# EAGLE library part MSP430FW42* (library Texas Instruments)
MIXED SIGNAL MICROCONTROLLER created with make-symbol-device-package-bsdl - text option Source: www.ti.com .. MSP430 Microcontroller.pdf
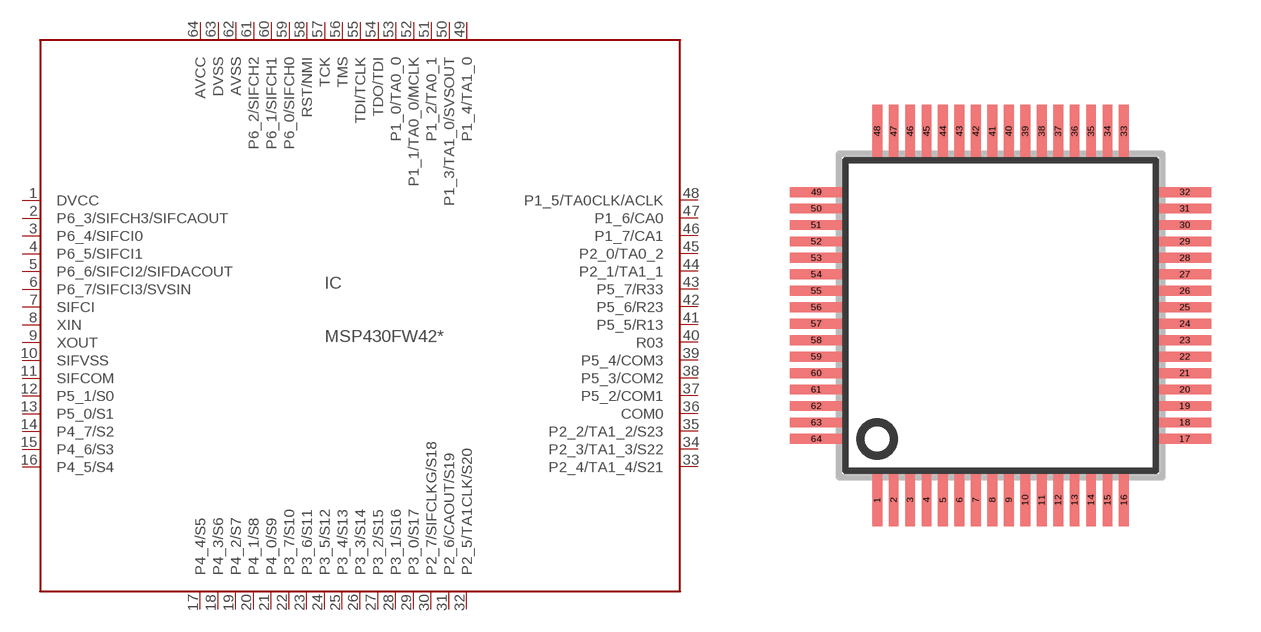
[diagram p8: symbol with the pads of SQFP-S-10X10-64; footprint SQFP-S-10X10-64]

Designator prefix IC

## MSP430FW42IP (OC_FARNELL: unknown; OC_NEWARK: unknown)  [SQFP-S-10X10-64]
1  DVCC  pwr
2  P6_3/SIFCH3/SIFCAOUT
3  P6_4/SIFCI0
4  P6_5/SIFCI1
5  P6_6/SIFCI2/SIFDACOUT
6  P6_7/SIFCI3/SVSIN
7  SIFCI  in
8  XIN  in
9  XOUT  out
10  SIFVSS  pas
11  SIFCOM  out
12  P5_1/S0
13  P5_0/S1
14  P4_7/S2
15  P4_6/S3
16  P4_5/S4
17  P4_4/S5
18  P4_3/S6
19  P4_2/S7
20  P4_1/S8
21  P4_0/S9
22  P3_7/S10
23  P3_6/S11
24  P3_5/S12
25  P3_4/S13
26  P3_3/S14
27  P3_2/S15
28  P3_1/S16
29  P3_0/S17
30  P2_7/SIFCLKG/S18
31  P2_6/CAOUT/S19
32  P2_5/TA1CLK/S20
33  P2_4/TA1_4/S21
34  P2_3/TA1_3/S22
35  P2_2/TA1_2/S23
36  COM0  out
37  P5_2/COM1
38  P5_3/COM2
39  P5_4/COM3
40  R03  in
41  P5_5/R13
42  P5_6/R23
43  P5_7/R33
44  P2_1/TA1_1
45  P2_0/TA0_2
46  P1_7/CA1
47  P1_6/CA0
48  P1_5/TA0CLK/ACLK
49  P1_4/TA1_0
50  P1_3/TA1_0/SVSOUT
51  P1_2/TA0_1
52  P1_1/TA0_0/MCLK
53  P1_0/TA0_0
54  TDO/TDI
55  TDI/TCLK  in
56  TMS  in
57  TCK  in
58  RST/NMI  in
59  P6_0/SIFCH0
60  P6_1/SIFCH1
61  P6_2/SIFCH2
62  AVSS  pwr
63  DVSS  pwr
64  AVCC  pwr

## Footprint SQFP-S-10X10-64 (pad centres in mm)
QFP64 shrink quad flat pack, square
smd 0.3 x 1.6: 1 -3.75,-5.6; 2 -3.25,-5.6; 3 -2.75,-5.6; 4 -2.25,-5.6; 5 -1.75,-5.6; 6 -1.25,-5.6; 7 -0.75,-5.6; 8 -0.25,-5.6; 9 0.25,-5.6; 10 0.75,-5.6; 11 1.25,-5.6; 12 1.75,-5.6; 13 2.25,-5.6; 14 2.75,-5.6; 15 3.25,-5.6; 16 3.75,-5.6; 33 3.75,5.6; 34 3.25,5.6; 35 2.75,5.6; 36 2.25,5.6; 37 1.75,5.6; 38 1.25,5.6; 39 0.75,5.6; 40 0.25,5.6; 41 -0.25,5.6; 42 -0.75,5.6; 43 -1.25,5.6; 44 -1.75,5.6; 45 -2.25,5.6; 46 -2.75,5.6; 47 -3.25,5.6; 48 -3.75,5.6
smd 1.6 x 0.3: 17 5.6,-3.75; 18 5.6,-3.25; 19 5.6,-2.75; 20 5.6,-2.25; 21 5.6,-1.75; 22 5.6,-1.25; 23 5.6,-0.75; 24 5.6,-0.25; 25 5.6,0.25; 26 5.6,0.75; 27 5.6,1.25; 28 5.6,1.75; 29 5.6,2.25; 30 5.6,2.75; 31 5.6,3.25; 32 5.6,3.75; 49 -5.6,3.75; 50 -5.6,3.25; 51 -5.6,2.75; 52 -5.6,2.25; 53 -5.6,1.75; 54 -5.6,1.25; 55 -5.6,0.75; 56 -5.6,0.25; 57 -5.6,-0.25; 58 -5.6,-0.75; 59 -5.6,-1.25; 60 -5.6,-1.75; 61 -5.6,-2.25; 62 -5.6,-2.75; 63 -5.6,-3.25; 64 -5.6,-3.75